# Altium schematic symbol library WSN.SchLib: 27 symbols
Pins are listed as number, name and electrical type; pins without a type are passive.

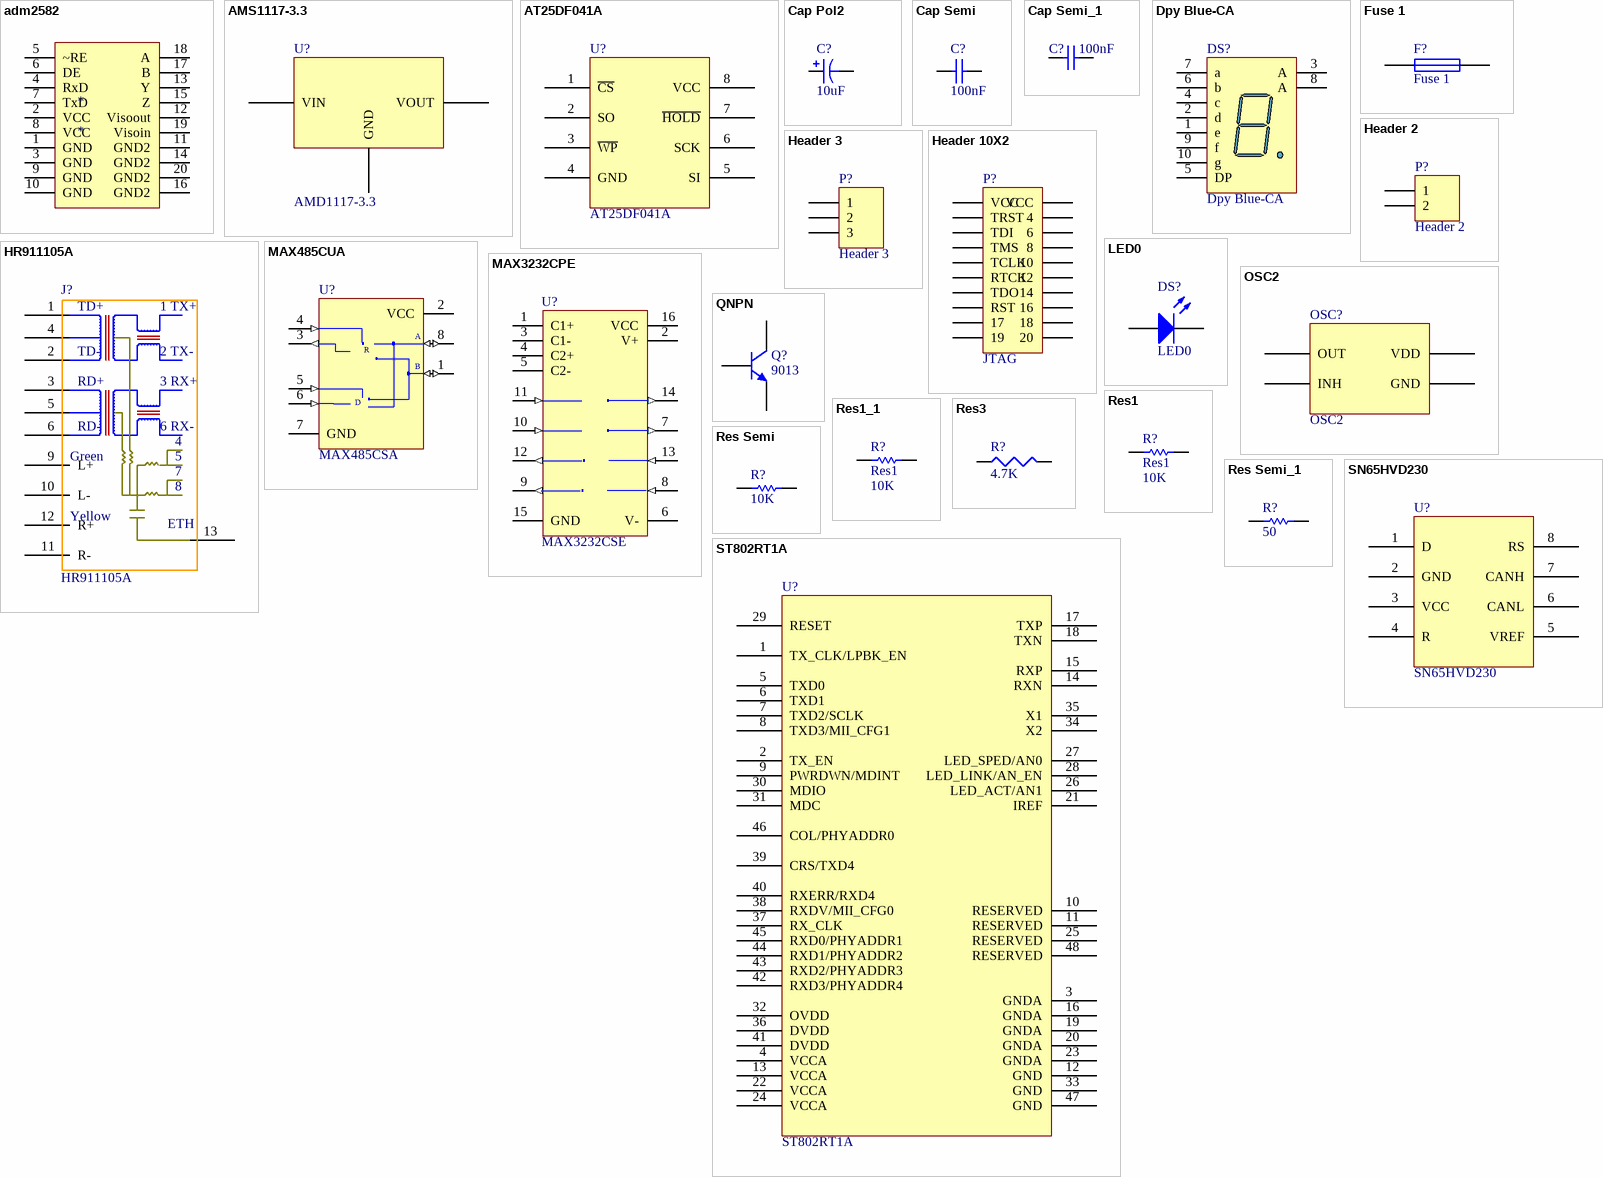
[diagram p0: symbols adm2582 to ST802RT1A]

## adm2582
designator *
pins: 1 GND, 2 VCC, 3 GND, 4 RxD, 5 ~RE, 6 DE, 7 TxD, 8 VCC, 9 GND, 10 GND, 11 GND2, 12 Visoout, 13 Y, 14 GND2, 15 Z, 16 GND2, 17 B, 18 A, 19 Visoin, 20 GND2

## AMS1117-3.3
designator U?, comment AMD1117-3.3
AMD1117-3.3芯片
footprint SOT230P700X180-4N (SOT223, 4-Leads, Body 6.5x7.3mm (max), Pitch 2.30mm, IPC Medium Density)
pins: 1 GND, 2 VOUT, 3 VIN

## AT25DF041A
designator U?
footprint AT25DF041A-SS
footprint at25df041a-sh
footprint at25df041a-sh
pins: 1 ~{CS}, 2 SO, 3 ~{WP}, 4 GND, 5 SI, 6 SCK, 7 ~{HOLD}, 8 VCC

## Cap Pol2
designator C?  value 10uF  (hidden comment: Cap Pol2)
Polarized Capacitor (Axial); Published: 8-Jun-2000; LatestRevisionDate: 17-Jul-2002; LatestRevisionNote: Re-released for DXP Platform.; Publisher: Altium Limited
footprint POLAR0.8 (Polarized Capacitor (Axial); 2 Leads)
footprint CAPPA14.05-10.5x6.3 (Capacitor, Axial, Polarised; Body 10.5 x 6.3 mm (LxDia. max), Lead Dia. 0.6 mm (typ))
footprint CAPPA23.6-18.5x8.5 (Capacitor, Axial, Polarised; Body 18.5 x 8.5 mm (LxDia. max), Lead Dia. 0.8 mm (typ))
footprint CAPPA31.6-26.5x12.5 (Capacitor, Axial, Polarised; Body 26.5 x 12.5 mm (LxDia. max), Lead Dia. 0.8 mm (typ))
footprint CAPPA35.6-30.5x18.5 (Capacitor, Axial, Polarised; Body 30.5 x 18.5 mm (LxDia. max), Lead Dia. 0.8 mm (typ))
footprint CAPPA46.1-41x21.5 (Capacitor, Axial, Polarised; Body 41 x 21.5 mm (LxDia. max), Lead Dia. 0.8 mm (typ))
simulation model CAP (Capacitor)
signal-integrity model Cap Pol
footprint CC4564-1825 (Chip Capacitor; Body 4.5 x 6.4 mm (LxW typ))
footprint cap pol
pins: 1, 2
1 alternate drawing of the same symbol

## Cap Semi
designator C?  value 100nF  (hidden comment: Cap Semi)
Capacitor (Semiconductor SIM Model); Published: 8-Jun-2000; LatestRevisionDate: 17-Jul-2002; LatestRevisionNote: Re-released for DXP Platform.; PackageReference: C1206; Publisher: Altium Limited
footprint CC3216-1206 (Chip Capacitor; Body 3.2 x 1.6 mm (LxW typ))
footprint CC1005-0402 (Chip Capacitor; Body 1.0 x 0.5 mm (LxW typ))
footprint CC1310-0504 (Chip Capacitor; Body 1.2 x 1.0 mm (LxW typ))
footprint CC1608-0603 (Chip Capacitor; Body 1.6 x 0.8 mm (LxW typ))
footprint CC3225-1210 (Chip Capacitor; Body 3.2 x 2.5 mm (LxW typ))
simulation model CAP (Semiconductor Capacitor)
signal-integrity model Cap Semi
pins: 1, 2

## Cap Semi_1
designator C?, comment value 100nF  (hidden comment: Cap Semi)
Capacitor (Semiconductor SIM Model); Published: 8-Jun-2000; LatestRevisionDate: 17-Jul-2002; LatestRevisionNote: Re-released for DXP Platform.; PackageReference: C1206; Publisher: Altium Limited
footprint CC3216-1206 (Chip Capacitor; Body 3.2 x 1.6 mm (LxW typ))
footprint CC1005-0402 (Chip Capacitor; Body 1.0 x 0.5 mm (LxW typ))
footprint CC1310-0504 (Chip Capacitor; Body 1.2 x 1.0 mm (LxW typ))
footprint CC1608-0603 (Chip Capacitor; Body 1.6 x 0.8 mm (LxW typ))
footprint CC3225-1210 (Chip Capacitor; Body 3.2 x 2.5 mm (LxW typ))
simulation model CAP (Semiconductor Capacitor)
signal-integrity model Cap Semi
footprint CR2012-0805
pins: 1, 2

## Dpy Blue-CA
designator DS?
14.2 mm General Purpose Blue 7-Segment Display: CA, RH DP, Gray Surface; MinimumIntensity: 2020 ucd; Note: IF = 10 mA; Published: 8-Jun-2000; LatestRevisionDate: 17-Dec-2003; LatestRevisionNote: Schematic revised, PCB Footprint replaced.; DatasheetDocument: 24-Sep-2002; PackageDocument: 24-Sep-2002; PackageReference: H; Publisher: Altium Limited; Colour: Blue
footprint LEDDIP-10/C15.24RHD (LED, 7-Segment Display, 14.2 mm, RHD; 10 Leads; Row Space 15.24 mm; Pitch 2.54 mm)
simulation model HDSP_501B (SUBCKT)
pins: 1 e "Cathode", 2 d "Cathode", 3 A "Common Anode", 4 c "Cathode", 5 DP "Cathode", 6 b "Cathode", 7 a "Cathode", 8 A "Common Anode", 9 f "Cathode", 10 g "Cathode"

## Fuse 1
designator F?
Fuse; Published: 8-Jun-2000; LatestRevisionDate: 17-Jul-2002; LatestRevisionNote: Re-released for DXP Platform.; PackageReference: PIN-W2/E2.8; Publisher: Altium Limited; PackageDescription: Thru-Hole; 2 Leads
footprint 1206C
pins: 1, 2

## Header 2
designator P?
Header, 2-Pin; LatestRevisionDate: 17-Jul-2002; LatestRevisionNote: Re-released for DXP Platform.; Publisher: Altium Limited
footprint HDR1X2 (Connector; Header; 2 Position)
signal-integrity model Connector
footprint 5.08-2
pins: 1, 2

## Header 3
designator P?
Header, 3-Pin; LatestRevisionDate: 17-Jul-2002; LatestRevisionNote: Re-released for DXP Platform.; Publisher: Altium Limited
signal-integrity model Connector
footprint 5.08-3
pins: 1, 2, 3

## Header 10X2
designator P?, comment JTAG
Header, 10-Pin, Dual row; LatestRevisionDate: 17-Jul-2002; LatestRevisionNote: Re-released for DXP Platform.; Publisher: Altium Limited
footprint HDR2X10 (Connector; Header; 10x2 Position)
signal-integrity model Connector
pins: 1 VCC, 2 VCC, 3 TRST, 4, 5 TDI, 6, 7 TMS, 8, 9 TCLK, 10, 11 RTCK, 12, 13 TDO, 14, 15 RST, 16, 17, 18, 19, 20

## HR911105A
designator J?
footprint HR911105A
footprint HR911105A
pins: 1, 2, 3, 4, 5, 6, 9 L+, 10 L-, 11 R-, 12 R+, 13
text: TD+; 1 TX+; TD-; 2 TX-; RD+; 3 RX+; RD-; 6 RX-; Green; 7; 8; Yellow; ETH

## LED0
designator DS?
Typical INFRARED GaAs LED; Published: 8-Jun-2000; LatestRevisionDate: 17-Jul-2002; LatestRevisionNote: Re-released for DXP Platform.; Publisher: Altium Limited
footprint LED-0 (Typical INFRARED GaAs LED; 2 Leads)
simulation model LED0 (Diode)
footprint CR1608-0603 (Chip Resistor; Body 1.6 x 0.8 mm (LxW typ))
footprint CR2012-0805 (Chip Resistor; Body 2.0 x 1.3 mm (LxW typ))
pins: 1 A, 2 K

## MAX485CUA
designator U?, comment MAX485CSA
Low-Power, Slew-Rate-Limited RS-485/RS-422 Transceiver; Published: 16-Jan-2001; LatestRevisionDate: 29-May-2009; LatestRevisionNote: IPC-7351 Footprint Added.; DatasheetVersion: Feb-1996; PackageReference: UMAX8; Publisher: Altium Limited; PackageDescription: 8-Pin Thin Small Outline Package 0.65 mm Pitch; ComponentLink1Description: Manufacturer Link; ComponentLink1URL: http://www.maxim-ic.com/; ComponentLink2Description: Datasheet; ComponentLink2URL: http://pdfserv.maxim-ic.com/en/ds/MAX1487-MAX491.pdf
footprint UMAX8_N (TSOP, 8-Leads, Body 3x3mm, Pitch 0.65mm, IPC Medium Density)
footprint UMAX8_L (TSOP, 8-Leads, Body 3x3mm, Pitch 0.65mm, IPC High Density)
footprint UMAX8_M (TSOP, 8-Leads, Body 3x3mm, Pitch 0.65mm, IPC Low Density)
3D model UMAX8 (8-Pin Thin Small Outline Package 0.65 mm Pitch)
footprint NSO8_L (SOIC, 8-Leads, Body 4.9x3.9mm, Pitch 1.27mm, IPC High Density)
pins: 1 B (io), 2 VCC (power), 3 RO (out), 4 ~{RE} (in), 5 DE (in), 6 DI (in), 7 GND (power), 8 A (io)
text: R; D

## MAX3232CPE
designator U?, comment MAX3232CSE
3.0V TO 5.5V, Low-Power, up to 1Mbps, True RS-232 Transceiver Using Four 0.1µF External Capacitor; Published: 16-Jan-2001; LatestRevisionDate: 29-May-2009; LatestRevisionNote: Component Body Added.; DatasheetVersion: Mar-1999; PackageVersion: Aug-2000; PackageReference: PE16; Publisher: Altium Limited; PackageDescription: DIP, 16-Pin, Row Spacing 7.62 mm, Pitch 2.54 mm; Code_JEDEC: MS-001-BB; ComponentLink1Description: Manufacturer Link; ComponentLink1URL: http://www.maxim-ic.com/; ComponentLink2Description: Datasheet; ComponentLink2URL: http://pdfserv.maxim-ic.com/en/ds/MAX3222-MAX3241.pdf
footprint PE16 (DIP, 16-Leads, Row Spacing 7.62mm, Pitch 2.54mm, Body 19.18x7.24mm)
3D model PE16 (DIP, 16-Pin, Row Spacing 7.62 mm, Pitch 2.54 mm)
footprint NSO16_M (SOIC, 16-Leads, Body 9.9x3.9mm, Pitch 1.27mm, IPC Low Density)
pins: 1 C1+, 2 V+ (power), 3 C1-, 4 C2+, 5 C2-, 6 V- (power), 7 T2OUT (out), 8 R2IN (in), 9 R2OUT (out), 10 T2IN (in), 11 T1IN (in), 12 R1OUT (out), 13 R1IN (in), 14 T1OUT (out), 15 GND (power), 16 VCC (power)

## OSC2
designator OSC?
footprint AMD7050
pins: 1 INH, 2 GND, 3 OUT, 4 VDD

## QNPN
designator Q?, comment 9013
NPN Bipolar Transistor; Published: 8-Jun-2000; LatestRevisionDate: 17-Jul-2002; LatestRevisionNote: Re-released for DXP Platform.; Publisher: Altium Limited; Code_JEDEC: SOT-23
footprint SOT23
pins: 1 B hidden, 2 E hidden, 3 C hidden

## Res1
designator R?  value 10K
Resistor; Published: 8-Jun-2000; LatestRevisionDate: 17-Jul-2002; LatestRevisionNote: Re-released for DXP Platform.; PackageReference: AXIAL-0.3; Publisher: Altium Limited; PackageDescription: Axial Device, Thru-Hole; 2 Leads; 0.3 in Pin Spacing
footprint AXIAL-0.3 (Axial Device, Thru-Hole; 2 Leads; 0.3 in Pin Spacing)
simulation model RESISTOR (Resistor)
signal-integrity model Res
footprint Cr1608-0603 (Chip Resistor; Body 1.6 x 0.8 mm (LxW typ))
pins: 1, 2

## Res1_1
designator R?, comment Res1  value 10K
Resistor; Published: 8-Jun-2000; LatestRevisionDate: 17-Jul-2002; LatestRevisionNote: Re-released for DXP Platform.; PackageReference: AXIAL-0.3; Publisher: Altium Limited; PackageDescription: Axial Device, Thru-Hole; 2 Leads; 0.3 in Pin Spacing
simulation model RESISTOR (Resistor)
signal-integrity model Res
footprint Cr1608-0603 (Chip Resistor; Body 1.6 x 0.8 mm (LxW typ))
pins: 1, 2

## Res3
designator R?  value 4.7K  (hidden comment: Res3)
Resistor; Published: 8-Jun-2000; LatestRevisionDate: 17-Jul-2002; LatestRevisionNote: Re-released for DXP Platform.; Publisher: Altium Limited
footprint C1608-0603 (Chip Resistor; Body 1.6 x 0.8 mm (LxW typ))
footprint CR3225-1210 (Chip Resistor; Body 3.2 x 2.5 mm (LxW typ))
footprint CR5025-2010 (Chip Resistor; Body 5.0 x 2.5 mm (LxW typ))
footprint CR6332-2512 (Chip Resistor; Body 6.3 x 3.2 mm (LxW typ))
simulation model RESISTOR (Resistor)
signal-integrity model Res
footprint Cr1608-0603
pins: 1, 2

## Res Semi
designator R?  value 10K  (hidden comment: Res Semi)
Semiconductor Resistor; Published: 8-Jun-2000; LatestRevisionDate: 17-Jul-2002; LatestRevisionNote: Re-released for DXP Platform.; Publisher: Altium Limited
footprint AXIAL-0.5 (Semiconductor Resistor; 2 Leads)
footprint CR1005-0402 (Chip Resistor; Body 1.1 x 0.5 mm (LxW typ))
footprint CR1608-0603 (Chip Resistor; Body 1.6 x 0.8 mm (LxW typ))
footprint CR2012-0805 (Chip Resistor; Body 2.0 x 1.3 mm (LxW typ))
footprint CR3216-1206 (Chip Resistor; Body 3.2 x 1.6 mm (LxW typ))
simulation model RES (Semiconductor Resistor)
signal-integrity model Res Semi
pins: 1, 2

## Res Semi_1
designator R?, comment value 50  (hidden comment: Res Semi)
Semiconductor Resistor; Published: 8-Jun-2000; LatestRevisionDate: 17-Jul-2002; LatestRevisionNote: Re-released for DXP Platform.; Publisher: Altium Limited
footprint AXIAL-0.5 (Semiconductor Resistor; 2 Leads)
footprint CR1005-0402 (Chip Resistor; Body 1.1 x 0.5 mm (LxW typ))
footprint CR1608-0603 (Chip Resistor; Body 1.6 x 0.8 mm (LxW typ))
footprint CR2012-0805 (Chip Resistor; Body 2.0 x 1.3 mm (LxW typ))
footprint CR3216-1206 (Chip Resistor; Body 3.2 x 1.6 mm (LxW typ))
simulation model RES (Semiconductor Resistor)
signal-integrity model Res Semi
pins: 1, 2

## SN65HVD230
designator U?
SN65HVD230芯片
footprint SN65HVD230
pins: 1 D, 2 GND, 3 VCC, 4 R, 5 VREF, 6 CANL, 7 CANH, 8 RS

## ST802RT1A
designator U?
ST802RT1A芯片
footprint ST802RT1A
footprint ST802RT1A
pins: 1 TX_CLK/LPBK_EN, 2 TX_EN, 3 GNDA, 4 VCCA, 5 TXD0, 6 TXD1, 7 TXD2/SCLK, 8 TXD3/MII_CFG1, 9 PWRDWN/MDINT, 10 RESERVED, 11 RESERVED, 12 GND, 13 VCCA, 14 RXN, 15 RXP, 16 GNDA, 17 TXP, 18 TXN, 19 GNDA, 20 GNDA, 21 IREF, 22 VCCA, 23 GNDA, 24 VCCA, 25 RESERVED, 26 LED_ACT/AN1, 27 LED_SPED/AN0, 28 LED_LINK/AN_EN, 29 RESET, 30 MDIO, 31 MDC, 32 OVDD, 33 GND, 34 X2, 35 X1, 36 DVDD, 37 RX_CLK, 38 RXDV/MII_CFG0, 39 CRS/TXD4, 40 RXERR/RXD4, 41 DVDD, 42 RXD3/PHYADDR4, 43 RXD2/PHYADDR3, 44 RXD1/PHYADDR2, 45 RXD0/PHYADDR1, 46 COL/PHYADDR0, 47 GND, 48 RESERVED

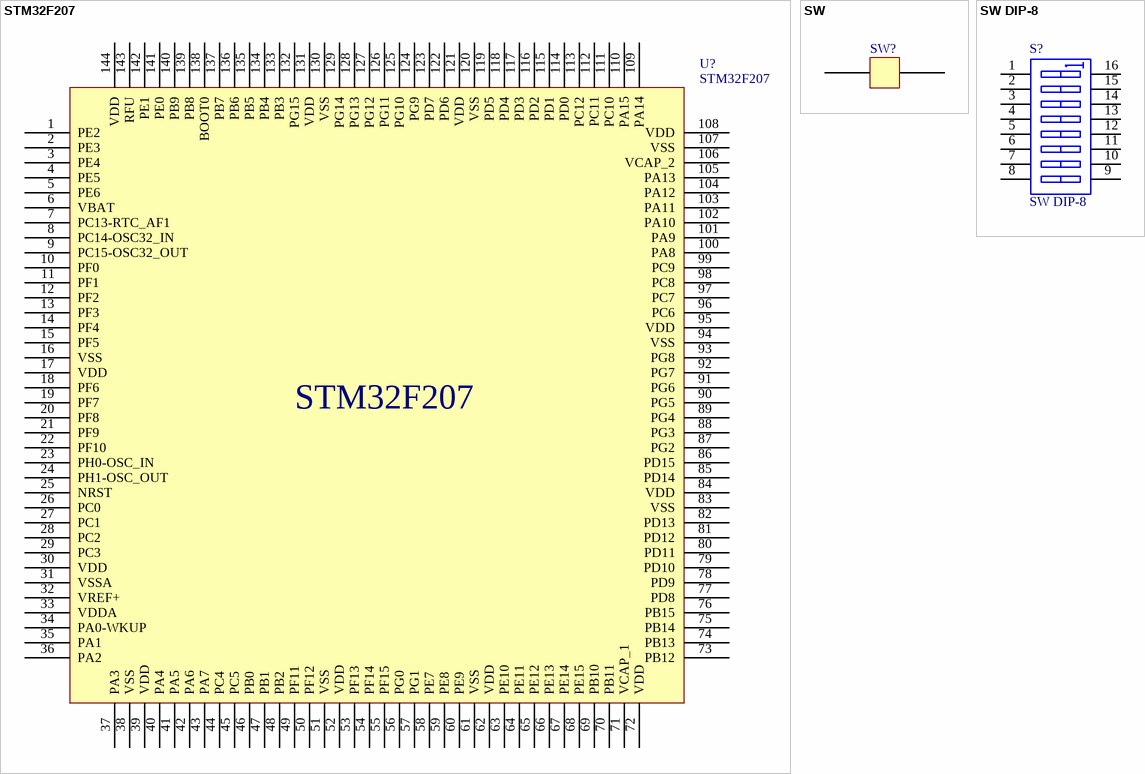
[diagram p1: symbols STM32F207 to SW DIP-8]

## STM32F207
designator U?
STM32F207芯片
footprint LQFP144
pins: 1 PE2, 2 PE3, 3 PE4, 4 PE5, 5 PE6, 6 VBAT, 7 PC13-RTC_AF1, 8 PC14-OSC32_IN, 9 PC15-OSC32_OUT, 10 PF0, 11 PF1, 12 PF2, 13 PF3, 14 PF4, 15 PF5, 16 VSS, 17 VDD, 18 PF6, 19 PF7, 20 PF8, 21 PF9, 22 PF10, 23 PH0-OSC_IN, 24 PH1-OSC_OUT, 25 NRST, 26 PC0, 27 PC1, 28 PC2, 29 PC3, 30 VDD, 31 VSSA, 32 VREF+, 33 VDDA, 34 PA0-WKUP, 35 PA1, 36 PA2, 37 PA3, 38 VSS, 39 VDD, 40 PA4, 41 PA5, 42 PA6, 43 PA7, 44 PC4, 45 PC5, 46 PB0, 47 PB1, 48 PB2, 49 PF11, 50 PF12, 51 VSS, 52 VDD, 53 PF13, 54 PF14, 55 PF15, 56 PG0, 57 PG1, 58 PE7, 59 PE8, 60 PE9, 61 VSS, 62 VDD, 63 PE10, 64 PE11, 65 PE12, 66 PE13, 67 PE14, 68 PE15, 69 PB10, 70 PB11, 71 VCAP_1, 72 VDD, 73 PB12, 74 PB13, 75 PB14, 76 PB15, 77 PD8, 78 PD9, 79 PD10, 80 PD11, 81 PD12, 82 PD13, 83 VSS, 84 VDD, 85 PD14, 86 PD15, 87 PG2, 88 PG3, 89 PG4, 90 PG5, 91 PG6, 92 PG7, 93 PG8, 94 VSS, 95 VDD, 96 PC6, 97 PC7, 98 PC8, 99 PC9, 100 PA8, 101 PA9, 102 PA10, 103 PA11, 104 PA12, 105 PA13, 106 VCAP_2, 107 VSS, 108 VDD, 109 PA14, 110 PA15, 111 PC10, 112 PC11, 113 PC12, 114 PD0, 115 PD1, 116 PD2, 117 PD3, 118 PD4, 119 PD5, 120 VSS, 121 VDD, 122 PD6, 123 PD7, 124 PG9, 125 PG10, 126 PG11, 127 PG12, 128 PG13, 129 PG14, 130 VSS, 131 VDD, 132 PG15, 133 PB3, 134 PB4, 135 PB5, 136 PB6, 137 PB7, 138 BOOT0, 139 PB8, 140 PB9, 141 PE0, 142 PE1, 143 RFU, 144 VDD

## SW
designator SW?  (value not drawn)
footprint RST_SW
pins: 1, 2

## SW DIP-8
designator S?
DIP Switch, 8 Position, SPST; Published: 24-Mar-1999; LatestRevisionDate: 17-Jul-2002; LatestRevisionNote: Re-released for DXP Platform.; PackageReference: DIP_SW_8WAY_SMD; Publisher: Altium Limited; PackageDescription: DIP Switch; 16 Leads
footprint DIP_SW_8WAY_SMD (DIP Switch; 16 Leads)
simulation model dpsw8 (Spice Subcircuit)
pins: 1 A1, 2 A2, 3 A3, 4 A4, 5 A5, 6 A6, 7 A7, 8 A8, 9 B8, 10 B7, 11 B6, 12 B5, 13 B4, 14 B3, 15 B2, 16 B1